# Altium schematic symbol library mycomponents.SchLib: 35 symbols
Pins are listed as number, name and electrical type; pins without a type are passive.

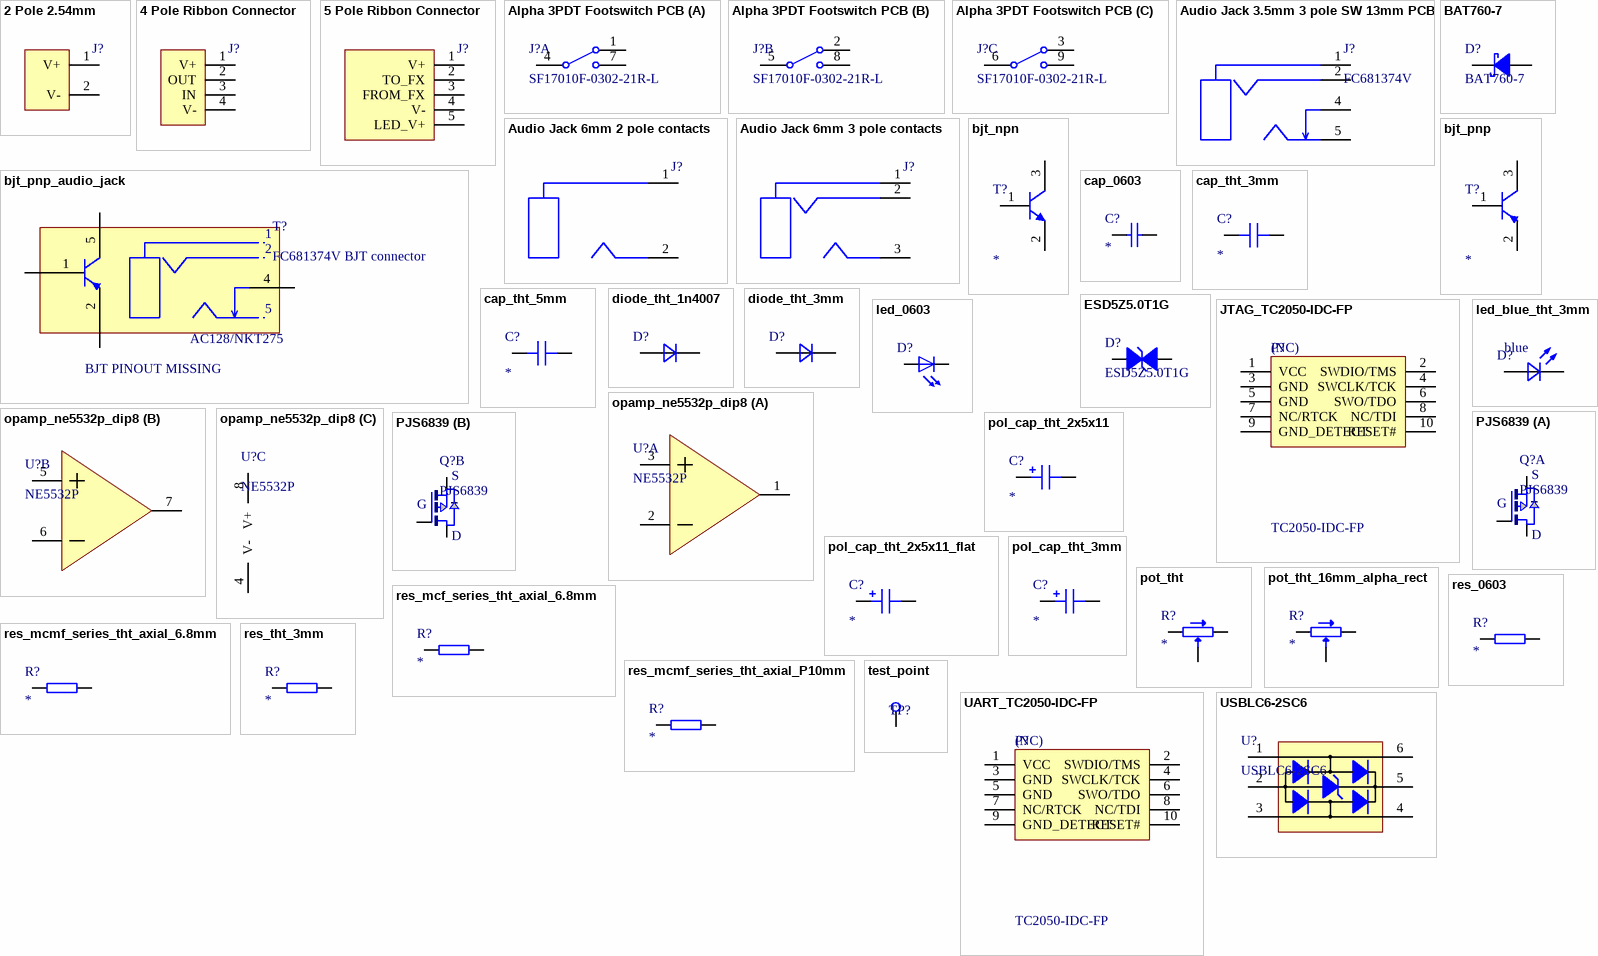
[diagram p0: symbols 2 Pole 2.54mm to USBLC6-2SC6]

## 2 Pole 2.54mm
designator J?  (no BOM)
Solder contacts for a 2.54mm connector
footprint 2.54mm_2pole
pins: 1 V+, 2 V-

## 4 Pole Ribbon Connector
designator J?  (no BOM)
Solder contacts for a 1.27mm ribbon cable
footprint 1.27mm_4pole
pins: 1 V+, 2 OUT, 3 IN, 4 V-

## 5 Pole Ribbon Connector
designator J?  (no BOM)
Solder contacts for a 1.27mm ribbon cable
footprint 1.27mm_5pole_edge
pins: 1 V+, 2 TO_FX, 3 FROM_FX, 4 V-, 5 LED_V+

## Alpha 3PDT Footswitch PCB
designator J?, comment SF17010F-0302-21R-L
Alpha Footswitch 3PDT, PCB; Manufacturer: Alpha; Supplier: Tube Town; ComponentLink1Description: Supplier Link; ComponentLink1URL: https://www.tube-town.net/ttstore/alpha-fussschalter-3-pol-wechsler-pcb.html; ComponentLink2Description: Manufacturer Link; ComponentLink2URL: http://www.taiwanalpha.com/en/products/8?cat=61#alpha_display; ComponentLink3Description: Datasheet Link; ComponentLink3URL: http://www.taiwanalpha.com/downloads?target=products&id=242; Price: 3.98; Manufacturer Part Number: SF17010F-0302-21R-L; Supplier Part Number: xsw24
footprint SF17010F-0302-21R-L (Alpha 3PDT Footswitch)
part A pins: 1, 4, 7
part B pins: 2, 5, 8
part C pins: 3, 6, 9

## Audio Jack 3.5mm 3 pole SW 13mm PCB
designator J?, comment FC681374V
Cliff Audio Jack 3.5mm 3 pole switched 13mm height PCB mount (or panel mount); Manufacturer: Cliff; Supplier: Distrelec; Manufacturer Part Number: FC681374V; Supplier Part Number: 300-10-093; Price: 2.37; ComponentLink1Description: Supplier Link; ComponentLink1URL: https://www.distrelec.at/de/einbau-stereoklinkenbuchse-mm-vertikal-mm-pole-cliff-fc681374v/p/30010093?utm_source=octopart&utm_medium=comparison-engines&utm_campaign=price-comparison&ext_cid=ceoctaqatde-loc; ComponentLink2Description: Datasheet Link; ComponentLink2URL: https://www.farnell.com/datasheets/1869285.pdf
footprint FC681374V (3.5mm audio jack SW PCB)
pins: 1, 2, 4, 5

## Audio Jack 6mm 2 pole contacts
designator J?  (no BOM)
Solder contacts for a 6mm mono audio jack
footprint 2.54mm_2pole
pins: 1, 2

## Audio Jack 6mm 3 pole contacts
designator J?  (no BOM)
Solder contacts for a 6mm stereo audio jack
footprint 2.54mm_3pole
pins: 1, 2, 3

## BAT760-7
designator D?
30V 1A, Vf=495mV @ 1A, Ir=50µA @ 15V Schottky Diode; Manufacturer: Diodes Incorporated; Supplier: Digikey; Price: 0,48; Manufacturer Part Number: BAT760-7; Supplier Part Number: BAT760DICT-ND; ComponentLink1Description: Supplier Link; ComponentLink1URL: https://www.digikey.at/de/products/detail/diodes-incorporated/BAT760-7/697106; ComponentLink2Description: Manufacturer Link; ComponentLink2URL: *; ComponentLink3Description: Datasheet Link; ComponentLink3URL: https://www.diodes.com/assets/Datasheets/BAT760.pdf
footprint sod-323
pins: 1 K, 2 A

## bjt_npn
designator T?
Value: *
pins: 1 B, 2 E, 3 C

## bjt_pnp
designator T?
Value: *
pins: 1 B, 2 E, 3 C

## bjt_pnp_audio_jack
designator T?, comment FC681374V BJT connector  value AC128/NKT275
Cliff Audio Jack 3.5mm 3 pole switched 13mm height PCB mount (or panel mount) / AC128 or NKT275 / For Flexi Fuzz guitar pedal; Manufacturer: Cliff; Supplier: Distrelec; Manufacturer Part Number: FC681374V; Supplier Part Number: 300-10-093; Price: 2.37; ComponentLink1Description: Supplier Link; ComponentLink1URL: https://www.distrelec.at/de/einbau-stereoklinkenbuchse-mm-vertikal-mm-pole-cliff-fc681374v/p/30010093?utm_source=octopart&utm_medium=comparison-engines&utm_campaign=price-comparison&ext_cid=ceoctaqatde-loc; ComponentLink2Description: Datasheet Link; ComponentLink2URL: https://www.farnell.com/datasheets/1869285.pdf
footprint FC681374V (3.5mm audio jack SW PCB)
pins: 1 B, 2 E, 4, 5 C
text: BJT PINOUT MISSING

## cap_0603
designator C?
Value: *
footprint cap_0603
pins: 1, 2

## cap_tht_3mm
designator C?
Value: *
pins: 1, 2

## cap_tht_5mm
designator C?
ceramic cap / Anschlussabstand: 5mm / 0.5mm lead diameter; Supplier: Farnell; Menufacturer: *; Manufacturer Part Numer: *; Supplier Part Number: *; Price: *; ComponentLink1Description: Manufacturer Link; ComponentLink1URL: *; ComponentLink2Description: Supplier Link; ComponentLink2URL: https://at.farnell.com/w/c/passive-bauelemente/kondensatoren/keramikkondensatoren/keramik-vielschichtkondensatoren-mlcc-bedrahtet?anschlussabstand=5mm&range=inc-in-stock|exc-delivery-surcharge|exc-obs; ComponentLink3Description: Datasheet Link; ComponentLink3URL: *; Value: *
footprint CAP_5mm
pins: 1, 2

## diode_tht_1n4007
designator D?
Manufacturer: onsemi; Manufacturer Part Number: 1N4007RLG; Supplier: Farnell; Supplier Part Number: 2317417; Price: 0.321; ComponentLink1Description: Manufacturer Link; ComponentLink1URL: *; ComponentLink2Description: Supplier Link; ComponentLink2URL: https://at.farnell.com/on-semiconductor/1n4007rlg/diode-std-erholzeit-1a-1kv-axial/dp/2317417; ComponentLink3Description: Datasheet Link; ComponentLink3URL: https://4donline.ihs.com/images/VipMasterIC/IC/ONSM/ONSM-S-A0013576855/ONSM-S-A0013902349-1.pdf?hkey=6D3A4C79FDBF58556ACFDE234799DDF0
footprint diode_tht
pins: 1, 2

## diode_tht_3mm
designator D?
pins: 1, 2

## ESD5Z5.0T1G
designator D?
2.5V 5A, Vf=1.1V @ 10mA, Ir=6µA @ 2.5V ESD Protection Diode; Manufacturer: onsemi; Supplier: Digikey; Price: 0,19; Manufacturer Part Number: ESD5Z5.0T1G; Supplier Part Number: ESD5Z5.0T1GOSCT-ND; ComponentLink1Description: Supplier Link; ComponentLink1URL: https://www.digikey.at/de/products/detail/onsemi/ESD5Z5-0T1G/1476609; ComponentLink2Description: Manufacturer Link; ComponentLink2URL: *; ComponentLink3Description: Datasheet Link; ComponentLink3URL: https://www.onsemi.com/pdf/datasheet/esd5z2.5t1-d.pdf
pins: 1 K, 2 A

## JTAG_TC2050-IDC-FP
designator P?, comment TC2050-IDC-FP  Remark: (NC)  (no BOM)
Tag-Connect JTAG Footprint with LEGS
footprint JTAG_TC2050-IDC-FP (PCB JTAG connector, with LEGS)
pins: 1 VCC, 2 SWDIO/TMS, 3 GND, 4 SWCLK/TCK, 5 GND, 6 SWO/TDO, 7 NC/RTCK, 8 NC/TDI, 9 GND_DETECT, 10 RESET#

## led_0603
designator D?
Green 3,2V 20mA; Manufacturer: Würth Elektronik; Manufacturer Part Number: 150060GS75000; Supplier: Digikey; Price: 0,14; Supplier Part Number: 732-4971-1-ND; ComponentLink1Description: Supplier Link; ComponentLink1URL: https://www.digikey.at/de/products/detail/w%C3%BCrth-elektronik/150060GS75000/4489898; ComponentLink2Description: Manufacturer Link; ComponentLink2URL: *; ComponentLink3Description: Datasheet Link; ComponentLink3URL: https://www.we-online.com/components/products/datasheet/150060GS75000.pdf
footprint led0603_GREEN (LED Green, 2-Leads, Body 1.6x0.8mm)
pins: 1 A, 2 C

## led_blue_tht_3mm
designator D?  value blue
Durchlassstrom If: 20mA / Durchlassspannung: 3.7V; Manufacturer: Forge; Manufacturer Part Number: FNL-U300B22CDSL; Supplier: Farnell; Supplier Part Number: 1200580; Price: 0.784; ComponentLink1Description: Supplier Link; ComponentLink1URL: https://at.farnell.com/forge/fnl-u300b22cdsl/led-3mm-blau/dp/1200580; ComponentLink2Description: Datasheet Link; ComponentLink2URL: https://www.farnell.com/datasheets/1508743.pdf
footprint led_3mm
pins: 1 anode, 2 kathode

## opamp_ne5532p_dip8
designator U?, comment NE5532P
Manufacturer: Texas Instruments; Supplier: Farnell; Supplier Part Number: 3117314; Manufacturer Part Number: NE5532P; Price: 0.836; ComponentLink1Description: Manufacturer Link; ComponentLink1URL: *; ComponentLink2Description: Supplier Link; ComponentLink2URL: https://at.farnell.com/texas-instruments/ne5532p/op-amp-dual-low-noise-5532-dip8/dp/3117314?st=ne5532; ComponentLink3Description: Datasheet Link; ComponentLink3URL: https://datasheet.octopart.com/NE5532P-Texas-Instruments-datasheet-83579903.pdf
footprint dip8
part A pins: 1 OUT1, 2 IN-1, 3 IN+1
part B pins: 5 IN+2, 6 IN-2, 7 OUT2
part C pins: 4 V-, 8 V+

## PJS6839
designator Q?
MOSFET P-CH 60V 300mA SOT-23-6; Manufacturer: Panjit International Inc.; Manufacturer Part Number: PJS6839_S1_00001; Supplier: Digikey; Supplier Part Number: 3757-PJS6839_S1_00001CT-ND; Price: 0.28; ComponentLink1Description: Datasheet; ComponentLink1URL: https://www.panjit.com.tw/upload/datasheet/PJS6839.pdf; ComponentLink2Description: Supplier; ComponentLink2URL: https://www.digikey.at/en/products/detail/panjit-international-inc/PJS6839-S1-00001/15799236; Value: PJS6839
footprint SOT23-6
part A pins: 1 G1, 5 S1, 6 D1
part B pins: 2 S2, 3 G2, 4 D2
part A text: S; G; D
part B text: S; G; D

## pol_cap_tht_2x5x11
designator C?
Kondensatoranschlüsse: Radial bedrahtet / Anschlussabstand: 2mm / Produktdurchmesser: 5mm / Produkthöhe: 11mm / Anschlussdurchmesser: 0.5mm; Manufacturer: *; Supplier: Farnell; Manufacturer Part Number: *; Supplier Part Number: *; Price: *; ComponentLink1Description: Manufacturer Link; ComponentLink1URL: *; ComponentLink2Description: Supplier Link; ComponentLink2URL: https://at.farnell.com/w/c/passive-bauelemente/kondensatoren/aluminium-elektrolytkondensatoren/bedrahtete-aluminium-elektrolytkondensatoren?kapazitat=1uf|2.2uf|10uf|22uf|100uf&spannung-dc-=10v|16v|25v|35v|50v|63v|100v&kondensatoranschlusse=radial-bedrahtet&anschlussabstand=2mm&produktdurchmesser=5mm&produkthohe=11mm&anschlussdurchmesser=0.5mm&range=inc-in-stock|exc-delivery-surcharge|exc-obs; ComponentLink3Description: Datasheet Link; ComponentLink3URL: *; Value: *
footprint pol_cap_2x5x11_0.5_rad
pins: 1, 2

## pol_cap_tht_2x5x11_flat
designator C?
Kondensatoranschlüsse: Radial bedrahtet / Anschlussabstand: 2mm / Produktdurchmesser: 5mm / Produkthöhe: 11mm / Anschlussdurchmesser: 0.5mm; Manufacturer: *; Supplier: Farnell; Manufacturer Part Number: *; Supplier Part Number: *; Price: *; ComponentLink1Description: Manufacturer Link; ComponentLink1URL: *; ComponentLink2Description: Supplier Link; ComponentLink2URL: https://at.farnell.com/w/c/passive-bauelemente/kondensatoren/aluminium-elektrolytkondensatoren/bedrahtete-aluminium-elektrolytkondensatoren?kapazitat=1uf|2.2uf|10uf|22uf|100uf&spannung-dc-=10v|16v|25v|35v|50v|63v|100v&kondensatoranschlusse=radial-bedrahtet&anschlussabstand=2mm&produktdurchmesser=5mm&produkthohe=11mm&anschlussdurchmesser=0.5mm&range=inc-in-stock|exc-delivery-surcharge|exc-obs; ComponentLink3Description: Datasheet Link; ComponentLink3URL: *; Value: *
footprint pol_cap_2x5x11_0.5_rad_flat
pins: 1, 2

## pol_cap_tht_3mm
designator C?
Value: *
pins: 1, 2

## pot_tht
designator R?
Value: *
pins: 1, 2, 3

## pot_tht_16mm_alpha_rect
designator R?
Alpha Potentiometer 16mm rectangular PCB mount; Manufacturer Part Number: RV16AF-41; Manufacturer: Alpha; Supplier: Tube Town; Supplier Part Number: apo16AF; Price: 1.41; ComponentLink1Description: Supplier Link; ComponentLink1URL: https://www.tube-town.net/ttstore/potentiometer-alpha-16-pcb-100k-linear-abgewinkelt.html; ComponentLink2Description: Manufacturer Link; ComponentLink3Description: Datasheet Link; ComponentLink3URL: https://electricdruid.net/wp-content/uploads/2016/12/Taiwan-Alpha-16mm-pots-datasheet.pdf; Value: *
footprint alpha_16mm_rect
pins: 1, 2, 3

## res_0603
designator R?
Value: *
footprint res_0603
pins: 1, 2

## res_mcf_series_tht_axial_6.8mm
designator R?
coal; Manufacturer: Multicomp Pro; Manufacturer Part Number: MCF 0.25W 47R; ComponentLink1Description: Supplier Link; ComponentLink1URL: https://at.farnell.com/w/c/passive-bauelemente/festwiderstande/widerstande-fur-durchsteckmontage?brand=multicomp-pro&produktpalette=mcf&produktlange=6.8mm&range=inc-in-stock|exc-delivery-surcharge|exc-obs; ComponentLink2Description: Datasheet Link; ComponentLink2URL: https://www.farnell.com/datasheets/3436052.pdf; Supplier: Farnell; Supplier Part Number: 9339523; Value: *
footprint res_6.8mm_axial
pins: 1, 2

## res_mcmf_series_tht_axial_6.8mm
designator R?
metal oxide / Produktpalette: MCMF / Produktdurchmesser: 2.5mm / Produktlänge: 6.8mm; Manufacturer: Multicomp Pro; Manufacturer Part Number: MCMF006FF1002A50; ComponentLink1Description: Supplier Link; ComponentLink1URL: https://at.farnell.com/w/c/passive-bauelemente/festwiderstande/widerstande-fur-durchsteckmontage?brand=multicomp-pro&produktpalette=mcmf&widerstandstechnologie=metallschichtwiderstand&produktlange=6.8mm&range=inc-in-stock|exc-delivery-surcharge|exc-obs; ComponentLink2Description: Datasheet Link; ComponentLink2URL: https://www.farnell.com/datasheets/2863892.pdf; Supplier: Farnell; Supplier Part Number: 2401780; Value: *
footprint res_6.8mm_axial
pins: 1, 2

## res_mcmf_series_tht_axial_P10mm
designator R?
metal oxide / Produktpalette: MCMF / Produktdurchmesser: 2.5mm / Produktlänge: 6.8mm; Manufacturer: Multicomp Pro; Manufacturer Part Number: MCMF006FF1002A50; ComponentLink1Description: Supplier Link; ComponentLink1URL: https://at.farnell.com/w/c/passive-bauelemente/festwiderstande/widerstande-fur-durchsteckmontage?brand=multicomp-pro&produktpalette=mcmf&widerstandstechnologie=metallschichtwiderstand&produktlange=6.8mm&range=inc-in-stock|exc-delivery-surcharge|exc-obs; ComponentLink2Description: Datasheet Link; ComponentLink2URL: https://www.farnell.com/datasheets/2863892.pdf; Supplier: Farnell; Supplier Part Number: 2401780; Value: *
footprint res_P10mm_axial
pins: 1, 2

## res_tht_3mm
designator R?
Value: *
pins: 1, 2

## test_point
designator TP?  (no BOM)
pins: 1 TP

## UART_TC2050-IDC-FP
designator P?, comment TC2050-IDC-FP  Remark: (NC)  (no BOM)
Tag-Connect JTAG Footprint with LEGS
footprint JTAG_TC2050-IDC-FP (PCB JTAG connector, with LEGS)
pins: 1 VCC, 2 SWDIO/TMS, 3 GND, 4 SWCLK/TCK, 5 GND, 6 SWO/TDO, 7 NC/RTCK, 8 NC/TDI, 9 GND_DETECT, 10 RESET#

## USBLC6-2SC6
designator U?
2.5V 5A, Vf=1.1V @ 10mA, Ir=6µA @ 2.5V ESD Protection Diode; Manufacturer: STMicroelectronics; Supplier: Digikey; Price: 0,32; Manufacturer Part Number: USBLC6-2SC6; Supplier Part Number: 497-5235-1-ND; ComponentLink1Description: Supplier Link; ComponentLink1URL: https://www.digikey.at/de/products/detail/stmicroelectronics/USBLC6-2SC6/1040559; ComponentLink2Description: Manufacturer Link; ComponentLink2URL: *; ComponentLink3Description: Datasheet Link; ComponentLink3URL: https://www.st.com/content/ccc/resource/technical/document/datasheet/06/1d/48/9c/6c/20/4a/b2/CD00050750.pdf/files/CD00050750.pdf/jcr:content/translations/en.CD00050750.pdf
footprint sot23-6l
pins: 1, 2, 3, 4, 5, 6